# EAGLE library part XN-3 (library mynixies)
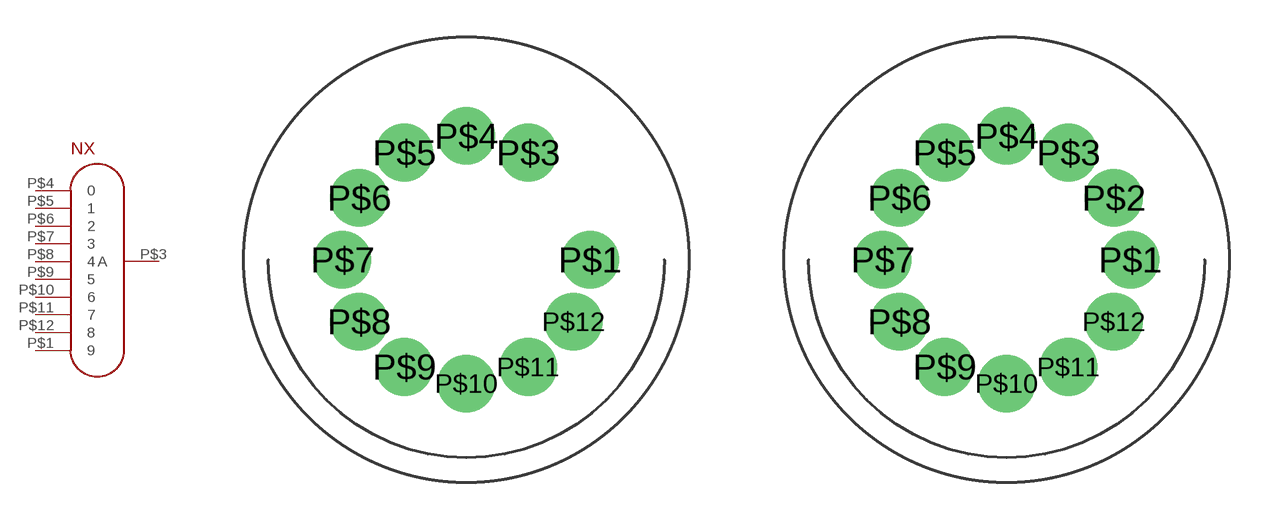
[diagram p11: symbol with the pads of SK-116-1; footprints SK-116-1, SK-116-2]

Designator prefix NX

## XN-3  [SK-116-1]
P$1  9
P$3  A
P$4  0
P$5  1
P$6  2
P$7  3
P$8  4
P$9  5
P$10  6
P$11  7
P$12  8

## XN-3XN-12  [SK-116-2]
P$1  9
P$2  0
P$3  A
P$5  1
P$6  2
P$7  3
P$8  4
P$9  5
P$10  6
P$11  7
P$12  8

## Footprint SK-116-1 (pad centres in mm)
drill 1.55: P$1 5,0; P$3 2.5,4.33; P$4 0,5; P$5 -2.5,4.33; P$6 -4.33,2.5; P$7 -5,0; P$8 -4.33,-2.5; P$9 -2.5,-4.33; P$10 0,-5; P$11 2.5,-4.33; P$12 4.33,-2.5

## Footprint SK-116-2 (pad centres in mm)
drill 1.55: P$1 5,0; P$2 4.33,2.5; P$3 2.5,4.33; P$4 0,5; P$5 -2.5,4.33; P$6 -4.33,2.5; P$7 -5,0; P$8 -4.33,-2.5; P$9 -2.5,-4.33; P$10 0,-5; P$11 2.5,-4.33; P$12 4.33,-2.5